# Altium footprint library PCB - CONNECTOR - MOLEX - MOLEX 2082440210.PcbLib: 1 footprints
Each footprint in its own frame and in the unit in brackets; x right, y up, seen from the top. Pads: shape width x height; smd on the part's side, far side on the other; paste and mask are expansions set on the pad; w line width, h text height; cw(c..) or ccw(c..) is an arc to the next point about the centre after c.
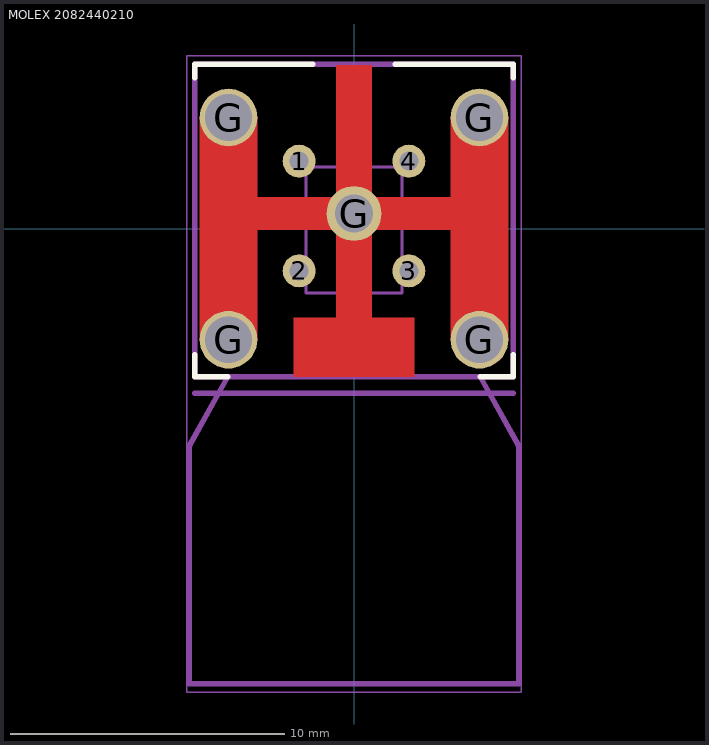
[diagram p0: the footprint, top view; thin cyan lines are the x and y axes]

## MOLEX 2082440210 [mm] "MMCX PCB End Launch Jack"
height 2.1
pads (10):
  round 1.2 hole 0.7: 1(-2,2.46) 2(-2,-1.54) 3(2,-1.54) 4(2,2.46)
  round 2.1 hole 1.7: G(-4.575,-4.05) G(-4.575,4.05) G(4.575,-4.05) G(4.575,4.05)
  round 0.025 smd: G(0,-0.05)
  round 2 hole 1.4: G(0,0.55)
Top Layer:
  region: -2.2,-5.4 2.2,-5.4 2.2,-3.25 0.65,-3.25 0.65,-0.05 3.525,-0.05 3.525,-4.05 5.625,-4.05 5.625,4.05 3.525,4.05 3.525,1.15 0.65,1.15 0.65,5.95 -0.65,5.95 -0.65,1.15 -3.525,1.15 -3.525,4.05 -5.625,4.05 -5.625,-4.05 -3.525,-4.05 -3.525,-0.05 -0.65,-0.05 -0.65,-3.25 -2.2,-3.25
Top Overlay:
  lines w0.2: -5.8,-4.6 -5.8,-5.4 -4.6,-5.4 ; -5.8,5.5 -5.8,6 -1.5,6 ; 1.5,6 5.8,6 5.8,5.5 ; 4.6,-5.4 5.8,-5.4 5.8,-4.6
Bottom 3D Body:
  lines w0.1: -1.75,-2.35 -1.75,2 cw(c-1.75,2.25) -1.5,2.25 1.5,2.25 cw(c1.75,2.25) 1.75,2 1.75,-2.35 -1.75,-2.35
  text "PCB Cutout" at -1.5,-0.25 h0.38
Top Component Outline:
  lines w0.2: -5.8,-6 5.8,-6 ; -4.6,-5.4 -6,-7.9 -6,-16.6 6,-16.6 6,-7.9 4.6,-5.4 ; -5.8,-5.4 -5.8,6 5.8,6 5.8,-5.4 -5.8,-5.4
Top Courtyard:
  lines w0.05: -0.5,0 0.5,0 ; 0,-0.5 0,0.5 ; -6.1,-16.9 -6.1,6.3 6.1,6.3 6.1,-16.9 -6.1,-16.9
3D body "Molex - 2082440210.step": height 15.64, standoff -2.45, extent -6,-16.605 6,5.945